# EAGLE library part TINYPICO-NANO-CONNECTOR (library TinyPICO_NANO_Eagle)
TinyPICO NANO Footprint https://www.tinypico.com/tinypico-nano
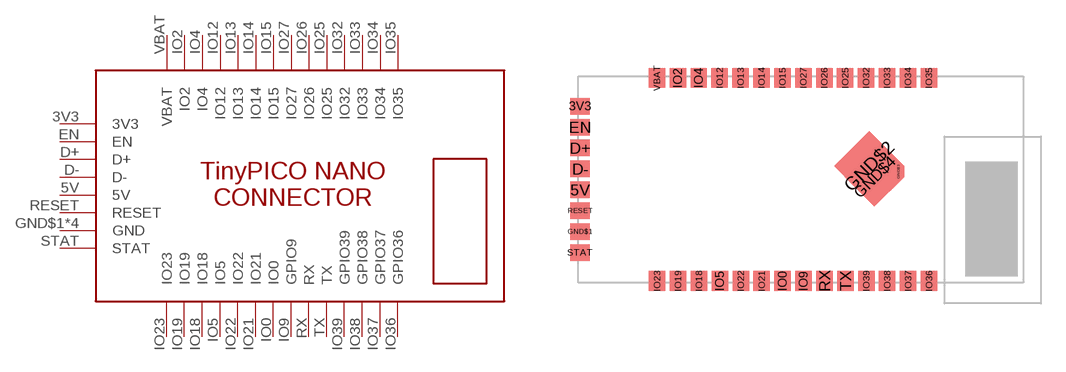
[diagram p0: symbol with the pads of TINYPICO-NANO-CONNECTOR; footprint TINYPICO-NANO-CONNECTOR]

Designator prefix -

## TINYPICO-NANO-CONNECTOR  [TINYPICO-NANO-CONNECTOR]
3V3  3V3  pwr
5V  5V  pwr
D+  D+
D-  D-
EN  EN  in
GND$1  GND  pwr
GND$2  GND  pwr
GND$3  GND  pwr
GND$4  GND  pwr
IO0  IO0
IO2  IO2
IO4  IO4
IO5  IO5
IO9  GPIO9
IO12  IO12
IO13  IO13
IO14  IO14
IO15  IO15
IO18  IO18
IO19  IO19
IO21  IO21
IO22  IO22
IO23  IO23
IO25  IO25
IO26  IO26
IO27  IO27
IO32  IO32
IO33  IO33
IO34  IO34
IO35  IO35
IO36  GPIO36
IO37  GPIO37
IO38  GPIO38
IO39  GPIO39
RESET  RESET
RX  RX
STAT  STAT  out
TX  TX
VBAT  VBAT  pwr

## Footprint TINYPICO-NANO-CONNECTOR (pad centres in mm)
smd 1.2 x 1: 3V3 0.1,10.725; 5V 0.1,5.645; D+ 0.1,8.185; D- 0.1,6.915; EN 0.1,9.455; GND$1 0.1,3.105; RESET 0.1,4.375; STAT 0.1,1.835
smd 3 x 3 rotated 45: GND$2 17.643,7.082
smd 0.66 x 0.671: GND$3 19.436,6.746
smd 2.54 x 2.54 rotated 45: GND$4 17.971,6.413
smd 1 x 1.2: IO0 12.395,0.1; IO2 6.034,12.44; IO4 7.304,12.44; IO5 8.585,0.1; IO9 13.665,0.1; IO12 8.574,12.44; IO13 9.844,12.44; IO14 11.114,12.44; IO15 12.384,12.44; IO18 7.315,0.1; IO19 6.045,0.1; IO21 11.125,0.1; IO22 9.855,0.1; IO23 4.775,0.1; IO25 16.194,12.44; IO26 14.924,12.44; IO27 13.654,12.44; IO32 17.464,12.44; IO33 18.734,12.44; IO34 20.004,12.44; IO35 21.274,12.44; IO36 21.285,0.1; IO37 20.015,0.1; IO38 18.745,0.1; IO39 17.475,0.1; RX 14.935,0.1; TX 16.205,0.1; VBAT 4.764,12.44